# Altium schematic symbol library sch LIB smart home.SchLib: 15 symbols
Pins are listed as number, name and electrical type; pins without a type are passive.

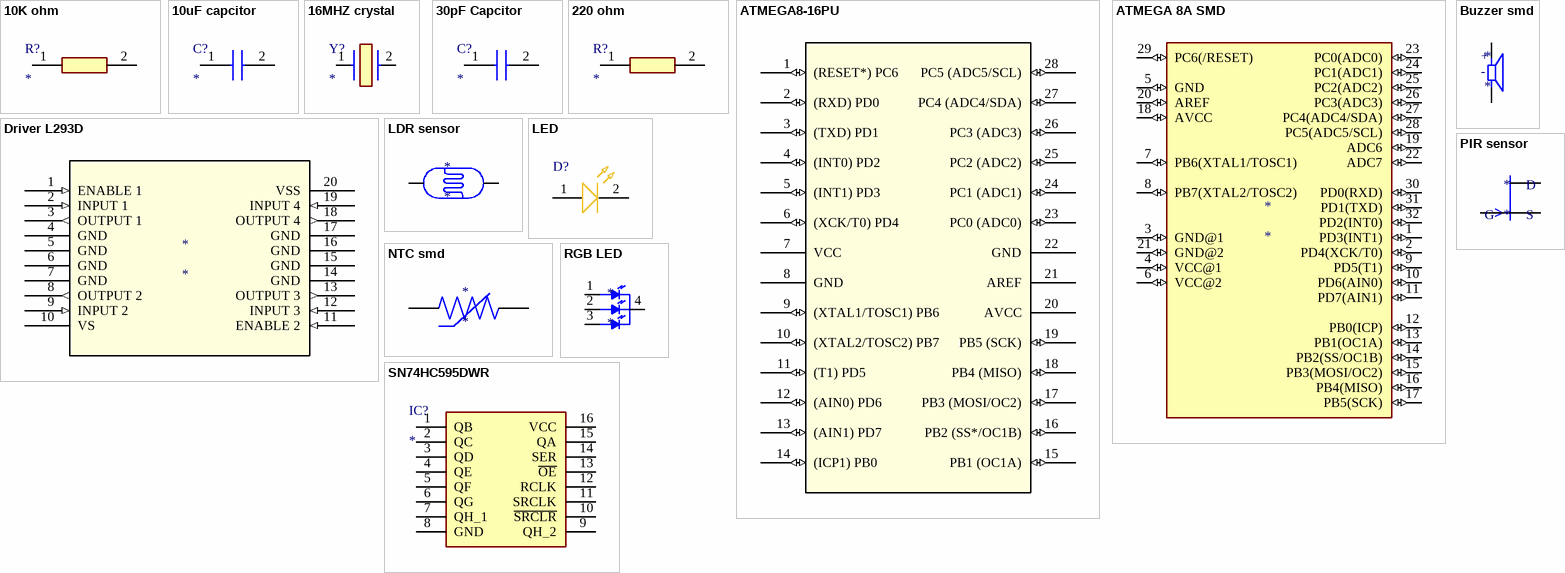
[diagram p0: symbols 10K ohm to SN74HC595DWR]

## 10K ohm
designator R?
Resistor; Manufacturer_Name: Bourns; Manufacturer_Part_Number: CR2512AJW-103ELF; Datasheet Link: https://www.bourns.com/docs/product-datasheets/crxxxxa.pdf; Height: 0.7mm; Mouser Part Number: 652-CR2512AJW-103ELF; Mouser Price/Stock: https://www.mouser.co.uk/ProductDetail/Bourns/CR2512AJW-103ELF?qs=GedFDFLaBXEqggePGBQmuQ%3D%3D
footprint 10k OHM
pins: 1, 2

## 10uF capcitor
designator C?
Capacitor; Manufacturer_Name: Kyocera AVX; Manufacturer_Part_Number: 06031A300FAT2A; Datasheet Link: https://componentsearchengine.com/Datasheets/1/06031A100FAT2A.pdf; Height: 0.9mm; Mouser Part Number: 581-06031A300FAT2A; Mouser Price/Stock: https://www.mouser.co.uk/ProductDetail/KYOCERA-AVX/06031A300FAT2A?qs=0IpgBZdgZcpQvPd025dd0w%3D%3D
footprint 10uf Capcitor
pins: 1, 2

## 16MHZ crystal
designator Y?
Crystal or Oscillator; Manufacturer_Name: ECS; Manufacturer_Part_Number: ECS-160-20-3X-TR; Datasheet Link: https://www.arrow.com/en/products/ecs-160-20-3x-tr/ecs-international; Height: 2.3mm; Mouser Part Number: 520-160-20-3XT; Mouser Price/Stock: https://www.mouser.co.uk/ProductDetail/ECS/ECS-160-20-3X-TR?qs=7Z%2FjUg96RbU1ElbRFXn8Rw%3D%3D; Arrow Part Number: ECS-160-20-3X-TR; Arrow Price/Stock: https://www.arrow.com/en/products/ecs-160-20-3x-tr/ecs-international?region=nac
footprint 16MHZ crystal
pins: 1, 2

## 30pF Capcitor
designator C?
Capacitor; Manufacturer_Name: Kyocera AVX; Manufacturer_Part_Number: 06031A300FAT2A; Datasheet Link: https://componentsearchengine.com/Datasheets/1/06031A100FAT2A.pdf; Height: 0.9mm; Mouser Part Number: 581-06031A300FAT2A; Mouser Price/Stock: https://www.mouser.co.uk/ProductDetail/KYOCERA-AVX/06031A300FAT2A?qs=0IpgBZdgZcpQvPd025dd0w%3D%3D
footprint 30pF Capcitor
pins: 1, 2

## 220 ohm
designator R?
Resistor; Manufacturer_Name: Walsin Technology Corporation; Manufacturer_Part_Number: WR08X2200FTL; Datasheet Link: https://www.arrow.com/en/products/wr08x2200ftl/walsin-technology; Arrow Part Number: WR08X2200FTL; Arrow Price/Stock: https://www.arrow.com/en/products/wr08x2200ftl/walsin-technology
footprint 220 OHM
pins: 1, 2

## ATMEGA8-16PU
designator ?
IC MCU 8BIT 8KB FLASH 28DIP; Mfr_Name: Microchip; Manufacturer Product Number: ATMEGA8-16PU; Supplier: Ultra Librarian
footprint ATMEGA 8A
pins: 1 (RESET*) PC6 (io), 2 (RXD) PD0 (io), 3 (TXD) PD1 (io), 4 (INT0) PD2 (io), 5 (INT1) PD3 (io), 6 (XCK/T0) PD4 (io), 7 VCC (power), 8 GND (power), 9 (XTAL1/TOSC1) PB6 (io), 10 (XTAL2/TOSC2) PB7 (io), 11 (T1) PD5 (io), 12 (AIN0) PD6 (io), 13 (AIN1) PD7 (io), 14 (ICP1) PB0 (io), 15 PB1 (OC1A) (io), 16 PB2 (SS*/OC1B) (io), 17 PB3 (MOSI/OC2) (io), 18 PB4 (MISO) (io), 19 PB5 (SCK) (io), 20 AVCC (power), 21 AREF, 22 GND (power), 23 PC0 (ADC0) (io), 24 PC1 (ADC1) (io), 25 PC2 (ADC2) (io), 26 PC3 (ADC3) (io), 27 PC4 (ADC4/SDA) (io), 28 PC5 (ADC5/SCL) (io)

## ATMEGA 8A SMD
designator *
Manufacturer: Microchip Technology; Manufacturer Product Number: ATMEGA8A-AU; Supplier: Ultra Librarian; Supplier Part Number: ATMEGA8A-AU-ND
footprint ATMEGA 8A SMD
pins: 1 PD3(INT1) (io), 2 PD4(XCK/T0) (io), 3 GND@1 (io), 4 VCC@1 (io), 5 GND (io), 6 VCC@2 (io), 7 PB6(XTAL1/TOSC1) (io), 8 PB7(XTAL2/TOSC2) (io), 9 PD5(T1) (io), 10 PD6(AIN0) (io), 11 PD7(AIN1) (io), 12 PB0(ICP) (io), 13 PB1(OC1A) (io), 14 PB2(SS/OC1B) (io), 15 PB3(MOSI/OC2) (io), 16 PB4(MISO) (io), 17 PB5(SCK) (io), 18 AVCC (io), 19 ADC6 (io), 20 AREF (io), 21 GND@2 (io), 22 ADC7 (io), 23 PC0(ADC0) (io), 24 PC1(ADC1) (io), 25 PC2(ADC2) (io), 26 PC3(ADC3) (io), 27 PC4(ADC4/SDA) (io), 28 PC5(ADC5/SCL) (io), 29 PC6(/RESET) (io), 30 PD0(RXD) (io), 31 PD1(TXD) (io), 32 PD2(INT0) (io)

## Buzzer smd
designator *
Manufacturer: Murata Electronics; Manufacturer Product Number: PKMCS0909E4000-R1; Supplier: Ultra Librarian; Supplier Part Number: 490-9647-6-ND
footprint buzzer smd
pins: 1 P, 2 N
text: +; -

## Driver L293D
designator *
IC MTR DRV BIPOLR 4.5-36V 20SOIC; Manufacturer:: STMmicroelectronics; Manufacturer Product Number:: L293DD; Supplier part number: 497-1390-5-ND; Supplier: Ultra librarian
footprint L293D
pins: 1 ENABLE 1 (in), 2 INPUT 1 (in), 3 OUTPUT 1 (out), 4 GND (power), 5 GND (power), 6 GND (power), 7 GND (power), 8 OUTPUT 2 (out), 9 INPUT 2 (in), 10 VS, 11 ENABLE 2 (in), 12 INPUT 3 (in), 13 OUTPUT 3 (out), 14 GND (power), 15 GND (power), 16 GND (power), 17 GND (power), 18 OUTPUT 4 (out), 19 INPUT 4 (in), 20 VSS

## LDR sensor
designator *
PHOTO CELL (CDS PHOTORESISTOR); Manufacturer: Adafruit Industries LLC; Manufacturer Product Number: 161; Supplier: SnapMagic; Supplier Part Number: 1528-2141-ND
footprint LDR sensor
pins: 1, 2

## LED
designator D?
LED YELLOW CLEAR 0603 SMD; Manufacturer Part Number: 150060AS75000; Manufacturer: Wurth Elektronik; Match Code: WL-SMCW; Case/Size Code: 0603; Chip Technology: AlInGaP; Dominant Wavelength: 605nm; Emitting Color: Amber; Forward Voltage: 2V; Luminous Intensity: 130mcd; Peak Wavelength: 610nm; Viewing Angle: 140°; Category: Signal LEDs; ComponentLink1Description: Website Link; ComponentLink1URL: https://www.we-online.com/redexpert/article/150060AS75000?ad; ComponentLink2Description: Datasheet Link; ComponentLink2URL: https://www.we-online.com/redexpert/spec/150060AS75000?ad; Mount: Surface Mount; Operating Temperature Max: 85°C; Operating Temperature Min: -40°C; Packaging: Tape and Reel; Length: 1.6mm; Width: 0.8mm; Height: 0.7mm; Supplier: SnapMagic; Supplier part Number: 732-12013-6-ND
footprint LED
pins: 1, 2

## NTC smd
designator *
Manufacturer:: Panasonic Electronic Components; Manufacturer Part Number:: ERT-JZEG103FA; Supplier:: Ultra Librarian; Supplier Part Number:: P124053DKR-ND
footprint NTC smd
pins: 1, 2

## PIR sensor
designator *
Manufacturer: Zilog; Manufacturer Product Number: ZRE200GE; Supplier:: SnapMagic; Supplier Part Number: 269-4955-ND
footprint PIR sensor
pins: 1 D, 2 S, 3 G

## RGB LED
designator *
LED RGB 0404 SMD; Manufacturer:: Cree LED; Manufacturer Product Number:: UHD1110-FKA-CL1A13R3Q1BBQFMF3; Supplier Part Number: UHD1110-FKA-CL1A13R3Q1BBQFMF3DKR-ND; Supplier: SnapMagic
footprint RGB LED
pins: 1 RED, 2 GREEN, 3 BLUE, 4 CATHODE

## SN74HC595DWR
designator IC?
Integrated Circuit; Manufacturer_Name: Texas Instruments; Manufacturer_Part_Number: SN74HC595DWR; Mouser Part Number: 595-SN74HC595DWR; Supplier Part Number: SN74HC595DWR; Supplier: Texas Instruments
footprint HC595N
pins: 1 QB, 2 QC, 3 QD, 4 QE, 5 QF, 6 QG, 7 QH_1, 8 GND, 9 QH_2, 10 ~{SRCLR}, 11 SRCLK, 12 RCLK, 13 ~{OE}, 14 SER, 15 QA, 16 VCC